# Altium schematic symbol library interface.SchLib: 2 symbols
Pins are listed as number, name and electrical type; pins without a type are passive.

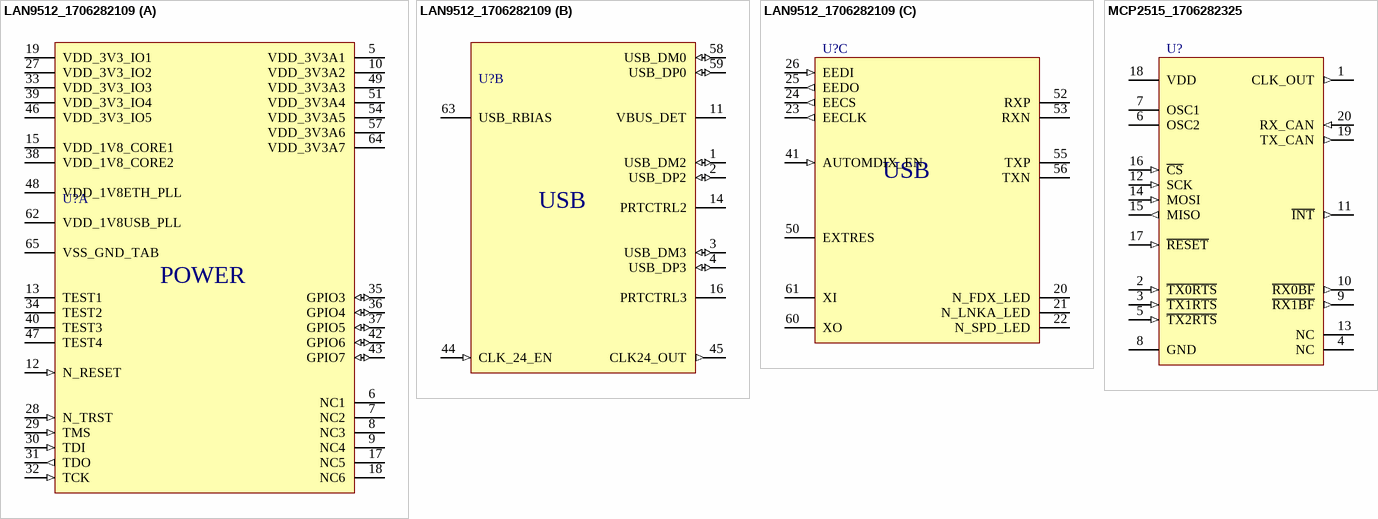
[diagram p0: symbols LAN9512_1706282109 to MCP2515_1706282325]

## LAN9512_1706282109
designator U?
=Description
part A pins: 5 VDD_3V3A1 (power), 6 NC1, 7 NC2, 8 NC3, 9 NC4, 10 VDD_3V3A2 (power), 12 N_RESET (in), 13 TEST1, 15 VDD_1V8_CORE1 (power), 17 NC5, 18 NC6, 19 VDD_3V3_IO1 (power), 27 VDD_3V3_IO2 (power), 28 N_TRST (in), 29 TMS (in), 30 TDI (in), 31 TDO (out), 32 TCK (in), 33 VDD_3V3_IO3 (power), 34 TEST2, 35 GPIO3 (io), 36 GPIO4 (io), 37 GPIO5 (io), 38 VDD_1V8_CORE2 (power), 39 VDD_3V3_IO4 (power), 40 TEST3, 42 GPIO6 (io), 43 GPIO7 (io), 46 VDD_3V3_IO5 (power), 47 TEST4, 48 VDD_1V8ETH_PLL (power), 49 VDD_3V3A3 (power), 51 VDD_3V3A4 (power), 54 VDD_3V3A5 (power), 57 VDD_3V3A6 (power), 62 VDD_1V8USB_PLL (power), 64 VDD_3V3A7 (power), 65 VSS_GND_TAB (power)
part B pins: 1 USB_DM2 (io), 2 USB_DP2 (io), 3 USB_DM3 (io), 4 USB_DP3 (io), 11 VBUS_DET, 14 PRTCTRL2, 16 PRTCTRL3, 44 CLK_24_EN (in), 45 CLK24_OUT (out), 58 USB_DM0 (io), 59 USB_DP0 (io), 63 USB_RBIAS
part C pins: 20 N_FDX_LED, 21 N_LNKA_LED, 22 N_SPD_LED, 23 EECLK (out), 24 EECS (out), 25 EEDO (out), 26 EEDI (in), 41 AUTOMDIX_EN (in), 50 EXTRES, 52 RXP, 53 RXN, 55 TXP, 56 TXN, 60 XO, 61 XI
part A text: POWER
part B text: USB
part C text: USB

## MCP2515_1706282325
designator U?
=Description
pins: 1 CLK_OUT (out), 2 ~{TX0RTS} (in), 3 ~{TX1RTS} (in), 4 NC, 5 ~{TX2RTS} (in), 6 OSC2, 7 OSC1, 8 GND (power), 9 ~{RX1BF} (out), 10 ~{RX0BF} (out), 11 ~{INT} (out), 12 SCK (in), 13 NC, 14 MOSI (in), 15 MISO (out), 16 ~{CS} (in), 17 ~{RESET} (in), 18 VDD, 19 TX_CAN (out), 20 RX_CAN (in)